# Altium schematic symbol library Header.SchLib: 5 symbols
Pins are listed as number, name and electrical type; pins without a type are passive.

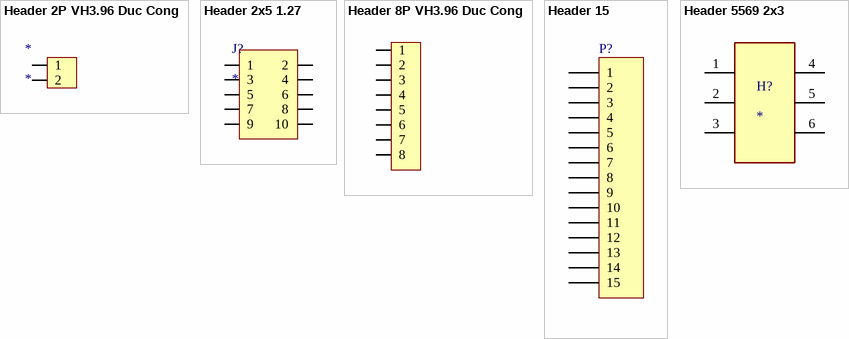
[diagram p0: symbols Header 2P VH3.96 Duc Cong to Header 5569 2x3]

## Header 2P VH3.96 Duc Cong
designator *
footprint VH3.96M-2 CONG
pins: 1, 2

## Header 2x5 1.27
designator J?
footprint Header 2x5 1.27
pins: 1, 2, 3, 4, 5, 6, 7, 8, 9, 10

## Header 8P VH3.96 Duc Cong
designator H?
Cắm; Ten_Linh_Kien: Header 8P XH2.54-8P Đực Thẳng; Don_Vi: Con; Ma_Hang: MH003366; Chung_Loai: Cắm
footprint VH3.96M-8 CONG
pins: 1, 2, 3, 4, 5, 6, 7, 8

## Header 15
designator P?
Header, 15-Pin; LatestRevisionDate: 17-Jul-2002; LatestRevisionNote: Re-released for DXP Platform.; Publisher: Altium Limited
footprint HDR1X15 (Connector; Header; 15 Position)
signal-integrity model Connector
pins: 1, 2, 3, 4, 5, 6, 7, 8, 9, 10, 11, 12, 13, 14, 15

## Header 5569 2x3
designator H?
footprint 2x3 Cong CN
pins: 1, 2, 3, 4, 5, 6